# EAGLE library part FRDM-TFC (library 21092015_projIntensif)
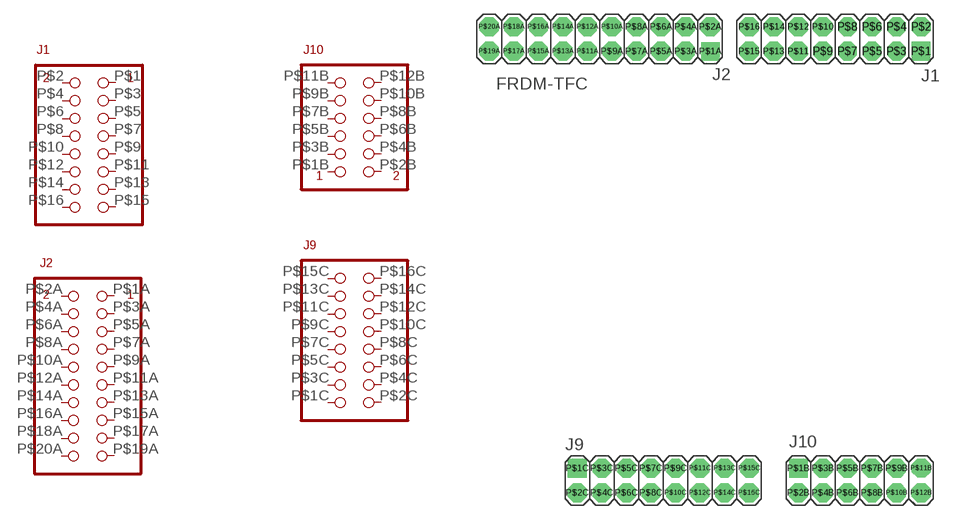
[diagram p0: symbol with the pads of FRDM; footprint FRDM]

Designator prefix -

## FRDM-TFC  [FRDM]
P$1  1  pas
P$1A  1A  pas
P$1B  1B  pas
P$1C  1C  pas
P$2  2  pas
P$2A  2A  pas
P$2B  2B  pas
P$2C  2C  pas
P$3  3  pas
P$3A  3A  pas
P$3B  3B  pas
P$3C  3C  pas
P$4  4  pas
P$4A  4A  pas
P$4B  4B  pas
P$4C  4C  pas
P$5  5  pas
P$5A  5A  pas
P$5B  5B  pas
P$5C  5C  pas
P$6  6  pas
P$6A  6A  pas
P$6B  6B  pas
P$6C  6C  pas
P$7  7  pas
P$7A  7A  pas
P$7B  7B  pas
P$7C  7C  pas
P$8  8  pas
P$8A  8A  pas
P$8B  8B  pas
P$8C  8C  pas
P$9  9  pas
P$9A  9A  pas
P$9B  9B  pas
P$9C  9C  pas
P$10  10  pas
P$10A  10A  pas
P$10B  10B  pas
P$10C  10C  pas
P$11  11  pas
P$11A  11A  pas
P$11B  11B  pas
P$11C  11C  pas
P$12  12  pas
P$12A  12A  pas
P$12B  12B  pas
P$12C  12C  pas
P$13  13  pas
P$13A  13A  pas
P$13C  13C  pas
P$14  14  pas
P$14A  14A  pas
P$14C  14C  pas
P$15  15  pas
P$15A  15A  pas
P$15C  15C  pas
P$16  16  pas
P$16A  16A  pas
P$16C  16C  pas
P$17A  17A  pas
P$18A  18A  pas
P$19A  19A  pas
P$20A  20A  pas

## Footprint FRDM (pad centres in mm)
drill 0.9 pad 1.93 square: P$1 22.378,21.774; P$1A 0.584,21.768; P$1B 9.703,-21.412; P$1C -13.183,-21.412
drill 0.9 pad 1.93 octagon: P$2 22.402,24.311; P$2A 0.572,24.311; P$2B 9.702,-23.95; P$2C -13.178,-23.95; P$3 19.842,21.771; P$3A -1.968,21.771; P$3B 12.242,-21.41; P$3C -10.638,-21.41; P$4 19.842,24.311; P$4A -1.968,24.311; P$4B 12.242,-23.95; P$4C -10.638,-23.95; P$5 17.302,21.771; P$5A -4.508,21.771; P$5B 14.782,-21.41; P$5C -8.098,-21.41; P$6 17.302,24.311; P$6A -4.508,24.311; P$6B 14.782,-23.95; P$6C -8.098,-23.95; P$7 14.762,21.771; P$7A -7.048,21.771; P$7B 17.322,-21.41; P$7C -5.558,-21.41; P$8 14.762,24.311; P$8A -7.048,24.311; P$8B 17.322,-23.95; P$8C -5.558,-23.95; P$9 12.222,21.771; P$9A -9.588,21.771; P$9B 19.862,-21.41; P$9C -3.018,-21.41; P$10 12.222,24.311; P$10A -9.588,24.311; P$10B 19.862,-23.95; P$10C -3.018,-23.95; P$11 9.682,21.771; P$11A -12.128,21.771; P$11B 22.402,-21.409; P$11C -0.478,-21.41; P$12 9.682,24.311; P$12A -12.128,24.311; P$12B 22.402,-23.95; P$12C -0.478,-23.95; P$13 7.142,21.771; P$13A -14.668,21.771; P$13C 2.062,-21.41; P$14 7.142,24.311; P$14A -14.668,24.311; P$14C 2.062,-23.95; P$15 4.602,21.771; P$15A -17.208,21.771; P$15C 4.622,-21.41; P$16 4.602,24.311; P$16A -17.208,24.311; P$16C 4.602,-23.95; P$17A -19.748,21.771; P$18A -19.748,24.311; P$19A -22.288,21.771; P$20A -22.288,24.311